# Altium schematic symbol library Module-Power.SchLib: 3 symbols
Pins are listed as number, name and electrical type; pins without a type are passive.

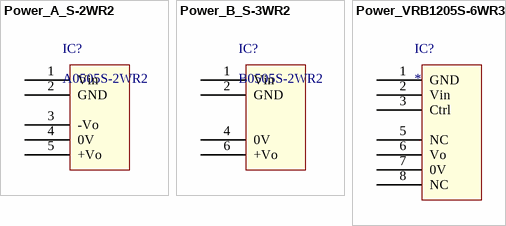
[diagram p0: symbols Power_A_S-2WR2 to Power_VRB1205S-6WR3]

## Power_A_S-2WR2
designator IC?, comment A0505S-2WR2
DC-DC模块 隔离非稳压 正负双路; Manufacturer_Name: YLPTEC(易川); Manufacturer_Part_Number: A0505-2WR2; Manufacturer_Name_1: K-CUT; LCSC: C5369421; Manufacturer_Part_Number_1: A0505S-2WR2
footprint A_S-2WR2
pins: 1 Vin (power), 2 GND (power), 3 -Vo (power), 4 0V (power), 5 +Vo (power)

## Power_B_S-3WR2
designator IC?, comment B0505S-2WR2
DC-DC模块 隔离非稳压 单路输出; Manufacturer_Name: K-CUT; Manufacturer_Part_Number: B0505S-3WR2; Manufacturer_Name_1: EVISUN(易成); LCSC: C7500927; Manufacturer_Part_Number_1: B0505S-3WR2
footprint B_S-3WR2
footprint B_S-3WR2-SMT
pins: 1 Vin (power), 2 GND (power), 4 0V (power), 6 +Vo (power)

## Power_VRB1205S-6WR3
designator IC?
DC-DC模块 9-18V输入 5V输出; Manufacturer_Name: EVISUN(易成); Manufacturer_Part_Number: VRB1205S-6WR3; LCSC: C42163238
footprint VRB1205S (DCDC模块)
pins: 1 GND (power), 2 Vin (power), 3 Ctrl (power), 5 NC (power), 6 Vo (power), 7 0V (power), 8 NC (power)